# EAGLE library part 5047540700 (library Bits_library_eagle 9x)
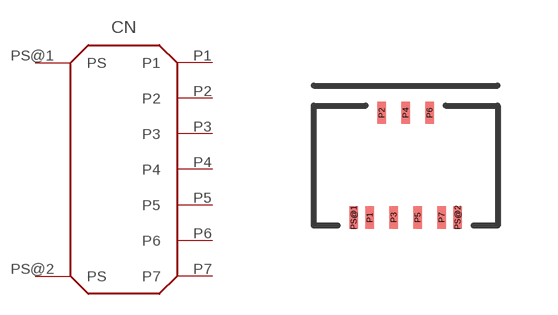
[diagram p92: symbol with the pads of 5047540700; footprint 5047540700]

Designator prefix CN

## 5047540700MOLEX  [5047540700]
P1  P1
P2  P2
P3  P3
P4  P4
P5  P5
P6  P6
P7  P7
PS@1  PS  pas
PS@2  PS  pas

## Footprint 5047540700 (pad centres in mm)
smd 0.22 x 0.55: P1 -0.9,0; P2 -0.6,2.615; P3 -0.3,0; P4 0,2.615; P5 0.3,0; P6 0.6,2.615; P7 0.9,0; PS@1 -1.3,0; PS@2 1.3,0